# EAGLE library part SENTSOR-CORE-ESP32-R1.0 (library sentsor-lib)
SENTSOR Core Board ESP32 R1.0
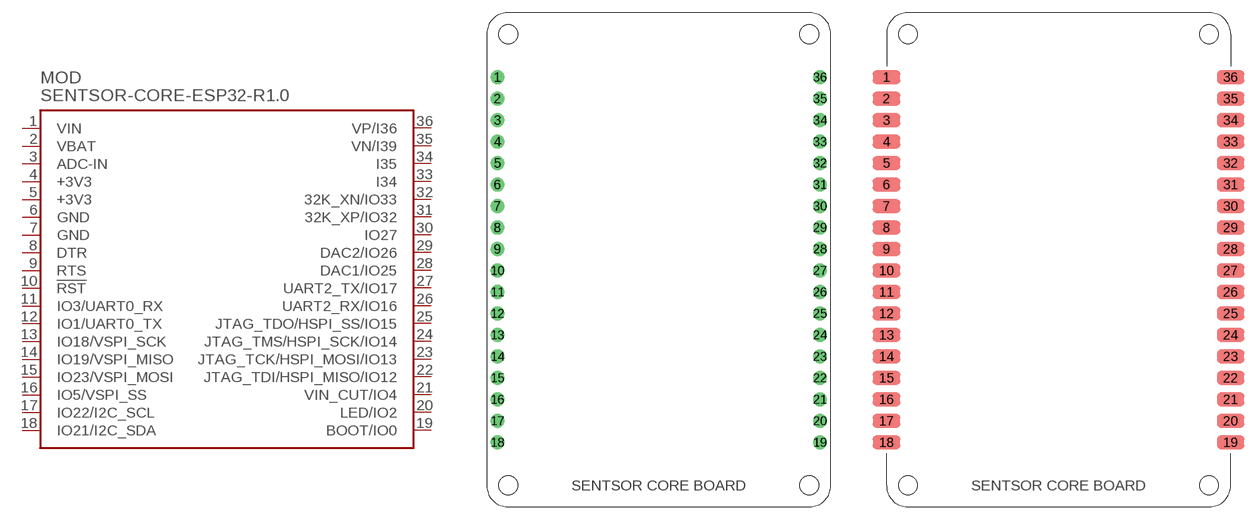
[diagram p0: symbol with the pads of FP_SENTSOR-CORE_TH; footprints FP_SENTSOR-CORE_TH, FP_SENTSOR-CORE_SMT]

Designator prefix MOD

## SENTSOR-CORE-ESP32-R1.0_TH  [FP_SENTSOR-CORE_TH]
1  VIN  pwr
2  VBAT  pwr
3  ADC-IN  pwr
4  +3V3  pwr
5  +3V3  pwr
6  GND  pwr
7  GND  pwr
8  DTR
9  RTS
10  !RST
11  IO3/UART0_RX
12  IO1/UART0_TX
13  IO18/VSPI_SCK
14  IO19/VSPI_MISO
15  IO23/VSPI_MOSI
16  IO5/VSPI_SS
17  IO22/I2C_SCL
18  IO21/I2C_SDA
19  BOOT/IO0
20  LED/IO2
21  VIN_CUT/IO4
22  JTAG_TDI/HSPI_MISO/IO12
23  JTAG_TCK/HSPI_MOSI/IO13
24  JTAG_TMS/HSPI_SCK/IO14
25  JTAG_TDO/HSPI_SS/IO15
26  UART2_RX/IO16
27  UART2_TX/IO17
28  DAC1/IO25
29  DAC2/IO26
30  IO27
31  32K_XP/IO32
32  32K_XN/IO33
33  I34
34  I35
35  VN/I39
36  VP/I36

## SENTSOR-CORE-ESP32-R1.0_SMT  [FP_SENTSOR-CORE_SMT]
Pads as for FP_SENTSOR-CORE_TH

## Footprint FP_SENTSOR-CORE_TH (pad centres in mm)
Thru-hole footprint for SENTSOR Core Board
drill 0.914 pad 1.626: 1 -19.05,21.59; 2 -19.05,19.05; 3 -19.05,16.51; 4 -19.05,13.97; 5 -19.05,11.43; 6 -19.05,8.89; 7 -19.05,6.35; 8 -19.05,3.81; 9 -19.05,1.27; 10 -19.05,-1.27; 11 -19.05,-3.81; 12 -19.05,-6.35; 13 -19.05,-8.89; 14 -19.05,-11.43; 15 -19.05,-13.97; 16 -19.05,-16.51; 17 -19.05,-19.05; 18 -19.05,-21.59; 19 19.05,-21.59; 20 19.05,-19.05; 21 19.05,-16.51; 22 19.05,-13.97; 23 19.05,-11.43; 24 19.05,-8.89; 25 19.05,-6.35; 26 19.05,-3.81; 27 19.05,-1.27; 28 19.05,1.27; 29 19.05,3.81; 30 19.05,6.35; 31 19.05,8.89; 32 19.05,11.43; 33 19.05,13.97; 34 19.05,16.51; 35 19.05,19.05; 36 19.05,21.59

## Footprint FP_SENTSOR-CORE_SMT (pad centres in mm)
Thru-hole footprint for SENTSOR Core Board
smd 3.251 x 1.626: 1 -20.32,21.59; 2 -20.32,19.05; 3 -20.32,16.51; 4 -20.32,13.97; 5 -20.32,11.43; 6 -20.32,8.89; 7 -20.32,6.35; 8 -20.32,3.81; 9 -20.32,1.27; 10 -20.32,-1.27; 11 -20.32,-3.81; 12 -20.32,-6.35; 13 -20.32,-8.89; 14 -20.32,-11.43; 15 -20.32,-13.97; 16 -20.32,-16.51; 17 -20.32,-19.05; 18 -20.32,-21.59; 19 20.32,-21.59; 20 20.32,-19.05; 21 20.32,-16.51; 22 20.32,-13.97; 23 20.32,-11.43; 24 20.32,-8.89; 25 20.32,-6.35; 26 20.32,-3.81; 27 20.32,-1.27; 28 20.32,1.27; 29 20.32,3.81; 30 20.32,6.35; 31 20.32,8.89; 32 20.32,11.43; 33 20.32,13.97; 34 20.32,16.51; 35 20.32,19.05; 36 20.32,21.59